# Altium schematic symbol library RCU.SchLib: 13 symbols
Pins are listed as number, name and electrical type; pins without a type are passive.

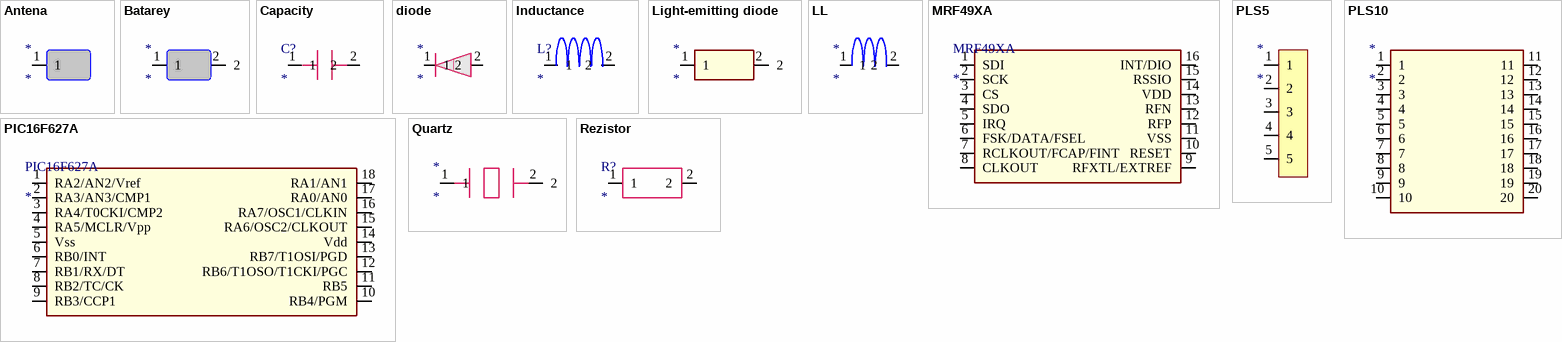
[diagram p0: symbols Antena to Rezistor]

## Antena
designator *
footprint Anteny
pins: 1

## Batarey
designator *
footprint Batarey
pins: 1, 2

## Capacity
designator C?
footprint С0805
pins: 1, 2

## diode
designator *
footprint diode
pins: 1, 2

## Inductance
designator L?
footprint L?
pins: 1, 2

## Light-emitting diode
designator *
footprint Light-emitting diode
pins: 1, 2

## LL
designator *
footprint LL
pins: 1, 2

## MRF49XA
designator MRF49XA
footprint MRF49XA
pins: 1 SDI, 2 SCK, 3 CS, 4 SDO, 5 IRQ, 6 FSK/DATA/FSEL, 7 RCLKOUT/FCAP/FINT, 8 CLKOUT, 9 RFXTL/EXTREF, 10 RESET, 11 VSS, 12 RFP, 13 RFN, 14 VDD, 15 RSSIO, 16 INT/DIO

## PIC16F627A
designator PIC16F627A
footprint PIC16F627A
pins: 1 RA2/AN2/Vref, 2 RA3/AN3/CMP1, 3 RA4/T0CKI/CMP2, 4 RA5/MCLR/Vpp, 5 Vss, 6 RB0/INT, 7 RB1/RX/DT, 8 RB2/TC/CK, 9 RB3/CCP1, 10 RB4/PGM, 11 RB5, 12 RB6/T1OSO/T1CKI/PGC, 13 RB7/T1OSI/PGD, 14 Vdd, 15 RA6/OSC2/CLKOUT, 16 RA7/OSC1/CLKIN, 17 RA0/AN0, 18 RA1/AN1

## PLS5
designator *
footprint PLS5
pins: 1, 2, 3, 4, 5

## PLS10
designator *
footprint PLS10
pins: 1, 2, 3, 4, 5, 6, 7, 8, 9, 10, 11, 12, 13, 14, 15, 16, 17, 18, 19, 20

## Quartz
designator *
footprint Quartz
pins: 1, 2

## Rezistor
designator R?
footprint R0805
pins: 1, 2